# EAGLE library part PPD60PV (library Cool_Electricity)
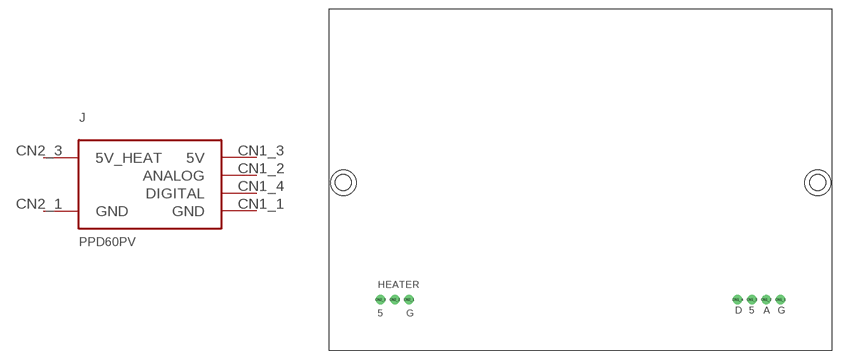
[diagram p16: symbol with the pads of PPD60PV; footprint PPD60PV]

Designator prefix J

## PPD60PV  [PPD60PV]
CN1_1  GND
CN1_2  ANALOG
CN1_3  5V
CN1_4  DIGITAL
CN2_1  GND
CN2_3  5V_HEAT

## Footprint PPD60PV (pad centres in mm)
drill 1.1: CN1_1 35,-21; CN1_2 32.5,-21; CN1_3 30,-21; CN1_4 27.5,-21; CN2_1 -30,-21; CN2_2 -32.5,-21; CN2_3 -35,-21
hole 2.8 at -41.5,-0.5
hole 2.8 at 41.5,-0.5